# Altium footprint library buzzer (2).PCBLIB: 39 footprints (part 2 of 3)
Each footprint in its own frame and in the unit in brackets; x right, y up, seen from the top. Pads: shape width x height; smd on the part's side, far side on the other; paste and mask are expansions set on the pad; w line width, h text height; cw(c..) or ccw(c..) is an arc to the next point about the centre after c.
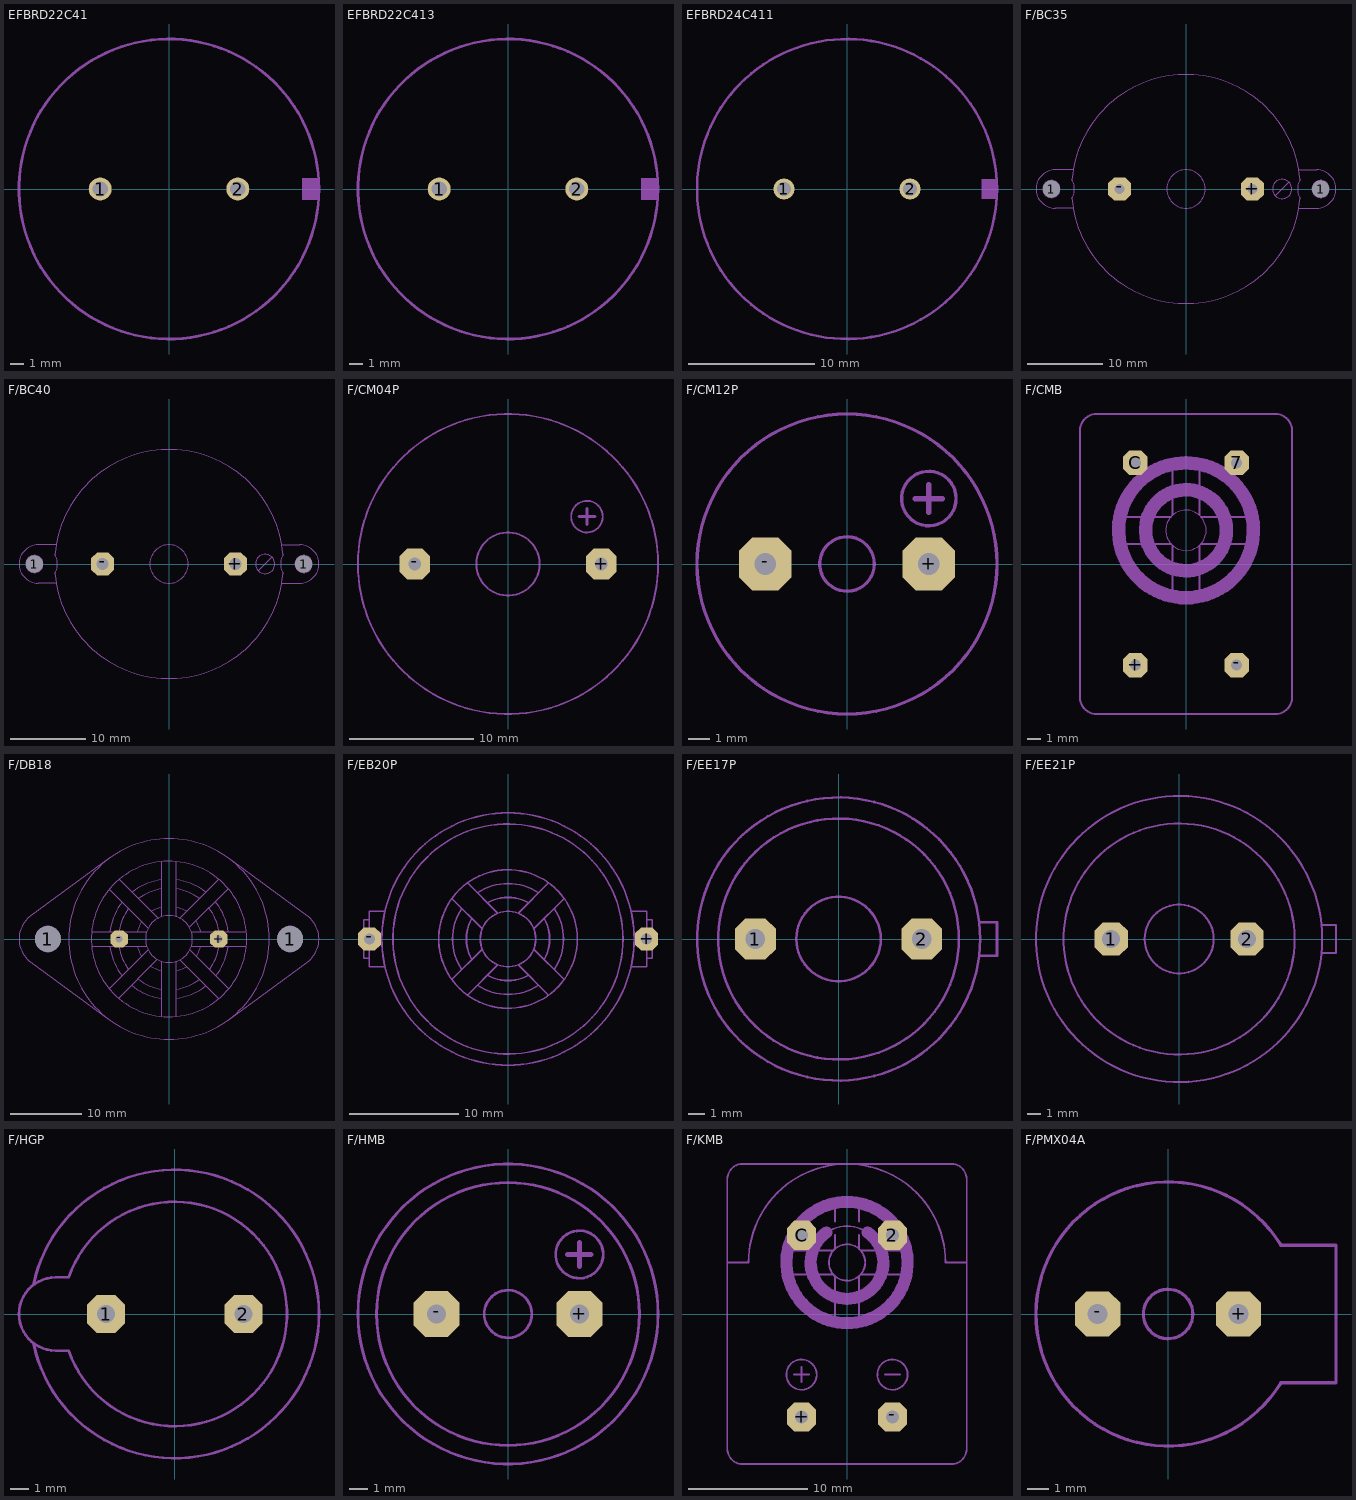
[diagram p1: the footprints below, top view; thin cyan lines are the x and y axes]

## EFBRD22C41 [mil]
pads (2):
  round 66 hole 43.31: 1(-196.85,0) 2(196.85,0)
Mechanical 2:
  circle w8: c0,0 r429.13
  rectangle: 380.91,-31.5 427.17,31.5

## EFBRD22C413 [mil]
pads (2):
  round 66 hole 43.31: 1(-196.85,0) 2(196.85,0)
Mechanical 2:
  circle w8: c0,0 r429.13
  rectangle: 380.91,-31.5 427.17,31.5

## EFBRD24C411 [mil]
pads (2):
  round 66 hole 43.31: 1(-196.85,0) 2(196.85,0)
Mechanical 2:
  circle w8: c0,0 r468.5
  rectangle: 420.28,-31.5 466.54,31.5

## F/BC35 [mil]
pads (4):
  round 87 hole 87: 1(-700,0) 1(700,0)
  oct 120.06x120.06 hole 52: +(345,0) -(-345,0)
Mechanical 2:
  circle w6: c0,0 r100
  circle w6: c-700,0 r45
  circle w6: c500,0 r50
  circle w6: c700,0 r45
  lines w6: -586.54,-100 -680,-100 cw(c-680,0) -680,100 -586.54,100 ; 464.65,-35.35 535.35,35.35 ; 586.54,-100 680,-100 ccw(c680,0) 680,100 586.54,100 ; -592.96,-49.23 ccw(c0,0) 592.96,-49.23 cw(c680,0) 592.96,49.23 ccw(c0,0) -592.96,49.23 cw(c-680,0) -592.96,-49.23

## F/BC40 [mil]
pads (4):
  round 87 hole 87: 1(-700,0) 1(700,0)
  oct 120.06x120.06 hole 63: +(345,0) -(-345,0)
Mechanical 2:
  circle w6: c0,0 r100
  circle w6: c-700,0 r45
  circle w6: c500,0 r50
  circle w6: c700,0 r45
  lines w6: -586.54,-100 -680,-100 cw(c-680,0) -680,100 -586.54,100 ; 464.65,-35.35 535.35,35.35 ; 586.54,-100 680,-100 ccw(c680,0) 680,100 586.54,100 ; -592.96,-49.23 ccw(c0,0) 592.96,-49.23 cw(c680,0) 592.96,49.23 ccw(c0,0) -592.96,49.23 cw(c-680,0) -592.96,-49.23

## F/CM04P [mil]
pads (2):
  oct 96.82x96.82 hole 40: +(295,0) -(-295,0)
Mechanical 2:
  circle w6: c0,0 r475
  circle w6: c0,0 r100
  circle w6: c250,150 r50
  lines w10: 225,150 275,150 ; 250,125 250,175

## F/CM12P [mil]
pads (2):
  oct 96.82x96.82 hole 40: +(150,0) -(-150,0)
Mechanical 2:
  circle w6: c0,0 r275
  circle w6: c0,0 r50
  circle w6: c150,120 r50
  lines w10: 125,120 175,120 ; 150,95 150,145

## F/CMB [mil]
pads (4):
  oct 72.62x72.62 hole 32: 7(150,300) +(-150,-300) -(150,-300) C(-150,300)
Mechanical 2:
  circle w0: c0,100 r60
  circle w40: c0,100 r120
  lines w6: -175.59,60 -134.17,60 ; -175.59,140 -134.17,140 ; -91.65,60 -44.72,60 ; -91.65,140 -44.72,140 ; -40,-75.59 -40,-34.17 ; -40,8.35 -40,55.28 ; -40,144.72 -40,191.65 ; -40,234.17 -40,275.59 ; 40,-75.59 40,-34.17 ; 40,8.35 40,55.28 ; 40,144.72 40,191.65 ; 40,234.17 40,275.59 ; 44.72,60 91.65,60 ; 44.72,140 91.65,140 ; 134.17,60 175.59,60 ; 134.17,140 175.59,140 ; -315,-395 -315,395 cw(c-265,395) -265,445 265,445 cw(c265,395) 315,395 315,-395 cw(c265,-395) 265,-445 -265,-445 cw(c-265,-395) -315,-395
  lines w40: -150.29,231.96 ccw(c0,100) 150.29,231.96 ; -84.98,281.05 cw(c0,100) 84.98,281.05
Mechanical 18:
  lines w40: -150.29,231.96 cw(c0.01,99.99) -84.98,281.05 ; 84.98,281.05 cw(c-0.01,99.99) 150.29,231.96

## F/DB18 [mil]
pads (4):
  round 142 hole 142: 1(-670,0) 1(670,0)
  oct 96.82x96.82 hole 40: +(276,0) -(-276,0)
Mechanical 2:
  circle w6: c0,0 r555
  circle w6: c0,0 r130
  circle w6: c0,0 r430
  circle w6: c-670,0 r70
  circle w6: c670,0 r70
  lines w6: -764.33,129.22 ccw(c-670,-0.01) -764.33,-129.25 -327.2,-448.31 ; -764.33,129.25 -327.2,448.31 ; -428.15,-40 -319.72,-40 ; -428.15,40 -319.72,40 ; -331.02,-274.45 -115.75,-59.17 ; -331.02,274.45 -115.75,59.17 ; -327.57,-40 ccw(c0,0.01) -259.91,-203.34 ; -327.57,40 cw(c0,-0.01) -259.91,203.34 ; -278.31,-327.8 -63.78,-113.27 ; -274.45,331.02 -59.17,115.75 ; -273.5,-59.98 ccw(c0,0.01) -224.24,-167.67 ; -273.5,59.98 cw(c0,-0.01) -224.24,167.67 ; -230.28,-40 -123.7,-40 ; -230.28,40 -123.7,40 ; -207.28,-256.78 ccw(c0,0) -40,-327.57 ; -203.34,259.91 cw(c0.01,0) -40,327.57 ; -175.5,-40 ccw(c0,0.01) -152.38,-95.81 ; -175.5,40 cw(c0,-0.01) -152.38,95.81 ; -171.69,-221.19 ccw(c-0.01,0) -40,-277.13 ; -167.67,224.24 cw(c0.01,0) -40,277.13 ; -100.1,-149.6 ccw(c0,-0.01) -40,-175.5 ; -95.81,152.38 cw(c0.01,0) -40,175.5 ; -40,-428.15 -40,-123.7 ; -40,123.7 -40,428.15 ; 40,-428.15 40,-123.7 ; 40,-327.57 ccw(c-0.01,0) 203.34,-259.91 ; 40,-277.13 ccw(c-0.01,0) 167.67,-224.24 ; 40,-175.5 ccw(c-0.01,0) 95.81,-152.38 ; 40,123.7 40,428.15 ; 40,175.5 cw(c-0.01,0) 95.81,152.38 ; 40,277.13 cw(c-0.01,0.01) 167.67,224.24 ; 40,327.57 cw(c-0.01,0) 203.34,259.91 ; 59.17,-115.75 274.45,-331.02 ; 59.17,115.75 274.45,331.02 ; 113.27,63.78 327.8,278.31 ; 115.75,-59.17 331.02,-274.45 ; 123.7,-40 230.28,-40 ; 123.7,40 230.28,40 ; 149.6,100.1 cw(c0.01,0) 175.5,40 ; 152.38,-95.81 ccw(c0,0.01) 175.5,-40 ; 221.19,171.69 cw(c0,0.01) 273.5,59.98 ; 224.24,-167.67 ccw(c0,0.01) 273.5,-59.98 ; 256.78,207.28 cw(c0,0) 327.57,40 ; 259.91,-203.34 ccw(c0,0.01) 327.57,-40 ; 319.72,-40 428.15,-40 ; 319.72,40 428.15,40 ; 327.2,-448.31 764.33,-129.25 ccw(c670,-0.01) 764.33,129.22 ; 327.2,448.31 764.33,129.25
Mechanical 18:
  lines w6: -319.72,-40 -230.28,-40 ; -319.72,40 -230.28,40 ; -277.13,-40 ccw(c0,0.03) -273.5,-59.98 ; -277.13,40 cw(c0,-0.03) -273.5,59.98 ; 230.28,-40 319.72,-40 ; 230.28,40 319.72,40 ; 273.5,-59.98 ccw(c0,0.03) 277.13,-40 ; 273.5,59.98 cw(c0,-0.03) 277.13,40

## F/EB20P [mil]
pads (2):
  oct 82.3x82.3 hole 40: +(500,0) -(-500,0)
Mechanical 2:
  circle w6: c0,0 r415
  circle w6: c0,0 r100
  circle w6: c0,0 r250
  lines w6: -520,-56.57 -520,-70 -500,-70 ; -520,56.57 -520,70 -500,70 ; -500,-60 -500,-70 ; -500,60 -500,70 ; -453.43,-37.83 ccw(c0,0) 453.43,-37.83 ; -453.43,37.83 cw(c0,0) 453.43,37.83 ; -443.86,-100 -500,-100 -500,-70 ; -443.86,100 -500,100 -500,70 ; -202.78,-146.22 -93.11,-36.54 ; -202.8,146.22 -93.11,36.54 ; -166.85,-110.28 cw(c0,0) -166.85,110.28 ; -146.22,-202.78 -36.54,-93.11 ; -146.22,202.8 -36.54,93.11 ; -130.51,-73.94 cw(c0,0) -130.51,73.94 ; -110.28,-166.85 ccw(c0,0) 110.28,-166.85 ; -110.28,166.85 cw(c0,0) 110.28,166.85 ; -73.94,-130.51 ccw(c0,0) 73.94,-130.51 ; -73.94,130.51 cw(c0,0) 73.94,130.51 ; 36.54,-93.11 146.22,-202.8 ; 36.54,93.11 146.22,202.78 ; 93.11,-36.54 202.8,-146.22 ; 93.11,36.54 202.78,146.22 ; 130.51,-73.94 ccw(c0,0) 130.51,73.94 ; 166.85,-110.28 ccw(c0,0) 166.85,110.28 ; 443.86,-100 500,-100 500,-70 ; 443.86,100 500,100 500,70 ; 500,-60 500,-70 ; 500,60 500,70 ; 520,-56.57 520,-70 500,-70 ; 520,56.57 520,70 500,70
Mechanical 18:
  lines w6: -520,-56.57 -520,56.57 ; -500,-60 -500,60 ; -453.43,-37.83 cw(c0.03,0) -453.43,37.83 ; 453.43,-37.83 ccw(c-0.03,0) 453.43,37.83 ; 500,-60 500,60 ; 520,-56.57 520,56.57

## F/EE17P [mil]
pads (2):
  oct 96.82x96.82 hole 47: 1(-197,0) 2(197,0)
Mechanical 2:
  circle w6: c0,0 r335
  circle w6: c0,0 r100
  circle w6: c0,0 r285
  lines w6: 332.6,-40 375,-40 375,40 332.6,40

## F/EE21P [mil]
pads (2):
  oct 96.82x96.82 hole 52: 1(-197,0) 2(197,0)
Mechanical 2:
  circle w6: c0,0 r335
  circle w6: c0,0 r100
  circle w6: c0,0 r415
  lines w6: 413.07,-40 455,-40 455,40 413.07,40

## F/HGP [mil]
pads (2):
  oct 82.3x82.3 hole 40: 1(-150,0) 2(150,0)
Mechanical 2:
  lines w6: -308.51,-63.61 ccw(c-0.02,0) -308.51,63.61 ; -260,-80 cw(c-260,0) -260,80 -231.57,80 cw(c0,0) -231.57,-80 -260,-80

## F/HMB [mil]
pads (2):
  oct 96.82x96.82 hole 40: +(150,0) -(-150,0)
Mechanical 2:
  circle w6: c0,0 r276
  circle w6: c0,0 r315
  circle w6: c0,0 r50
  circle w6: c150,125 r50
  lines w10: 125,125 175,125 ; 150,100 150,150

## F/KMB [mil]
pads (4):
  oct 96.82x96.82 hole 44: 2(150,260) +(-150,-340) -(150,-340) C(-150,260)
Mechanical 2:
  circle w6: c0,170 r60
  circle w6: c-150,-200 r50
  circle w6: c150,-200 r50
  lines w6: -175.59,130 -134.17,130 ; -175,-200 -125,-200 ; -150,-225 -150,-175 ; -91.65,130 -44.72,130 ; -91.65,210 -44.72,210 ; -67.76,269.04 cw(c0,170.01) 67.76,269.04 ; -40,-5.59 -40,35.83 ; -40,78.35 -40,125.28 ; -40,214.72 -40,261.65 ; -40,304.17 -40,345.59 ; 40,-5.59 40,35.83 ; 40,78.35 40,125.28 ; 40,214.72 40,261.65 ; 40,304.17 40,345.59 ; 44.72,130 91.65,130 ; 44.72,210 91.65,210 ; 125,-200 175,-200 ; 134.17,130 175.59,130 ; -395,170 -395,445 cw(c-345,445) -345,495 345,495 cw(c345,445) 395,445 395,170 ; -395,170 -395,-445 ccw(c-345,-445) -345,-495 345,-495 ccw(c345,-445) 395,-445 395,170 ; -395,170 -325,170 cw(c0,170) 325,170 395,170
  lines w40: -198.83,191.61 ccw(c0,170) 198.83,191.61 ; -119.3,182.97 ccw(c0,170) 119.3,182.97 ; -112.94,335.06 cw(c0,169.99) 112.94,335.06
Mechanical 18:
  lines w6: -175.59,210 -134.17,210 ; 134.17,210 175.59,210
  lines w40: -198.83,191.61 cw(c0,170) -112.94,335.06 ; -119.3,182.97 cw(c0,170) -67.76,269.04 ; 67.76,269.04 cw(c-0.01,169.99) 119.3,182.97 ; 112.94,335.06 cw(c0,170) 198.83,191.61

## F/PMX04A [mil]
pads (2):
  oct 82.3x82.3 hole 36: +(128,0) -(-128,0)
Mechanical 2:
  circle w6: c0,0 r45
  lines w6: 204.88,-125 cw(c0,0) 204.88,125 305,125 305,-125 204.88,-125